# Altium footprint library PcbLib1.PcbLib: 4 footprints
Each footprint in its own frame and in the unit in brackets; x right, y up, seen from the top. Pads: shape width x height; smd on the part's side, far side on the other; paste and mask are expansions set on the pad; w line width, h text height; cw(c..) or ccw(c..) is an arc to the next point about the centre after c.
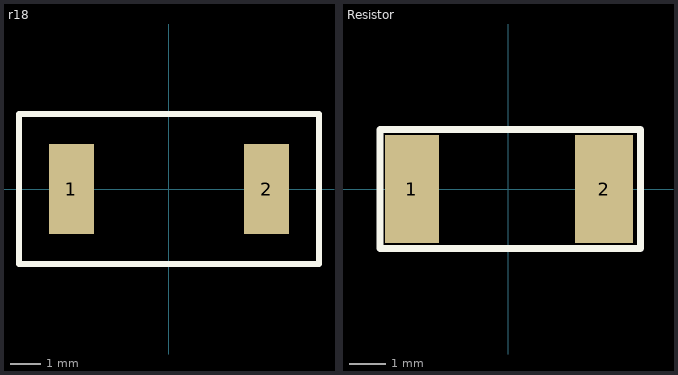
[diagram p0: the footprints below, top view; thin cyan lines are the x and y axes]

## ina138na/250g4 [mm]

## r18 [mm]
pads (2):
  rect 1.5x3 smd: 1(-3.25,0) 2(3.25,0)
Top Overlay:
  lines w0.2: -5,-2.5 5,-2.5 5,2.5 -5,2.5 -5,0 -5,-2.5

## Resistor [mm]
pads (2):
  rect 1.5x3 smd: 1(-2.667,0)
  rect 1.6x3 smd: 2(2.667,0)
Top Overlay:
  lines w0.2: -3.556,-1.651 -3.556,-0.064 -3.556,1.651 3.683,1.651 3.683,-1.651 1.429,-1.651 -1.556,-1.651 -3.556,-1.651

## SOP5 [mm]